# Altium footprint library CAP_CAN_D_6.3MM_SMT.PcbLib: 1 footprints
Each footprint in its own frame and in the unit in brackets; x right, y up, seen from the top. Pads: shape width x height; smd on the part's side, far side on the other; paste and mask are expansions set on the pad; w line width, h text height; cw(c..) or ccw(c..) is an arc to the next point about the centre after c.
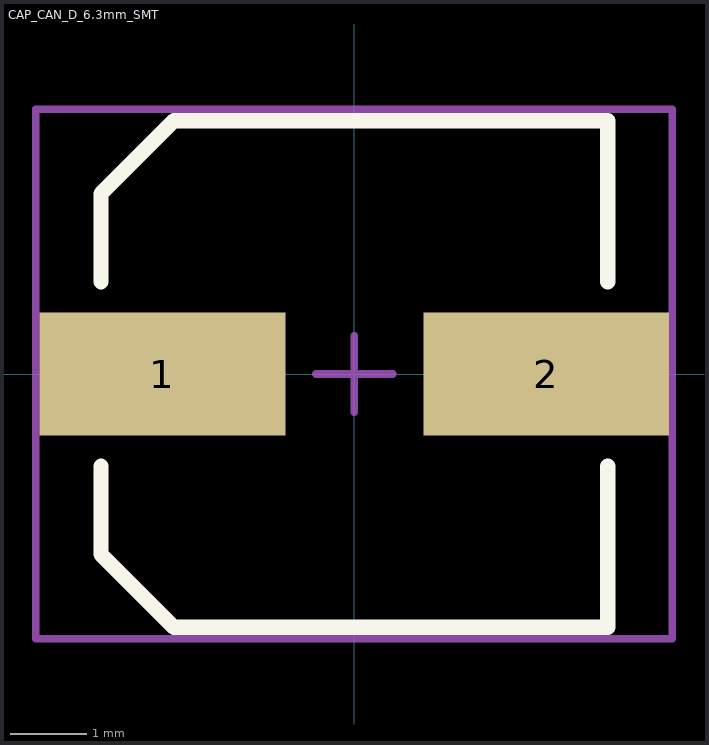
[diagram p0: the footprint, top view; thin cyan lines are the x and y axes]

## CAP_CAN_D_6.3mm_SMT [mm] "CAP SMT CAN D 6.3MM dia x 6.6MM height"
height 6.6
pads (2):
  rect 3.2x1.6 smd mask+0.102: 1(-2.5,0) 2(2.5,0)
Top Overlay:
  lines w0.2: -3.3,-1.2 -3.3,-2.35 -2.35,-3.3 3.3,-3.3 3.3,-1.2 ; -3.3,1.2 -3.3,2.35 -2.35,3.3 3.3,3.3 3.3,1.2
Part Outline:
  lines w0.1: -0.5,0 0.5,0 ; 0,-0.5 0,0.5 ; -4.15,-3.45 4.14,-3.45 4.14,3.45 -4.15,3.45 -4.15,-3.45
3D body: height 5.5, standoff 0.1, extent -3.144,-3.125 3.144,3.15